# EAGLE library part LM339ADR (library BlueHome)
QUAD DIFFERENTIAL COMPARATORS
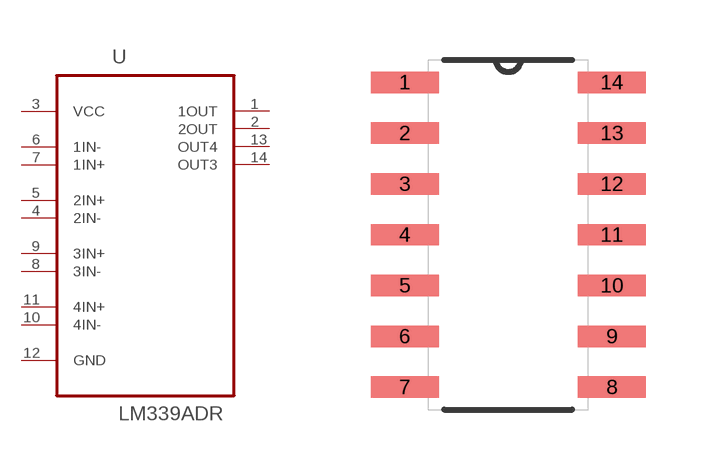
[diagram p12: symbol with the pads of SOIC127P600X175-14N; footprint SOIC127P600X175-14N]

Designator prefix U

## LM339ADR (AVAILABILITY: Unavailable; DESCRIPTION: Quad Differential Comparator 14-SOIC 0 to 70; MF: Texas Instruments; MP: LM339ADR; PACKAGE: SOIC-14 Texas Instruments; PRICE: None)  [SOIC127P600X175-14N]
1  1OUT  out
2  2OUT  out
3  VCC  pwr
4  2IN-  in
5  2IN+  in
6  1IN-  in
7  1IN+  in
8  3IN-  in
9  3IN+  in
10  4IN-  in
11  4IN+  in
12  GND  pas
13  OUT4  out
14  OUT3  out

## Footprint SOIC127P600X175-14N (pad centres in mm)
smd 1.702 x 0.533: 1 -2.591,3.81; 2 -2.591,2.54; 3 -2.591,1.27; 4 -2.591,0; 5 -2.591,-1.27; 6 -2.591,-2.54; 7 -2.591,-3.81; 8 2.591,-3.81; 9 2.591,-2.54; 10 2.591,-1.27; 11 2.591,0; 12 2.591,1.27; 13 2.591,2.54; 14 2.591,3.81